# Altium footprint library JUMMPER_NC_0805.PcbLib: 1 footprints
Each footprint in its own frame and in the unit in brackets; x right, y up, seen from the top. Pads: shape width x height; smd on the part's side, far side on the other; paste and mask are expansions set on the pad; w line width, h text height; cw(c..) or ccw(c..) is an arc to the next point about the centre after c.
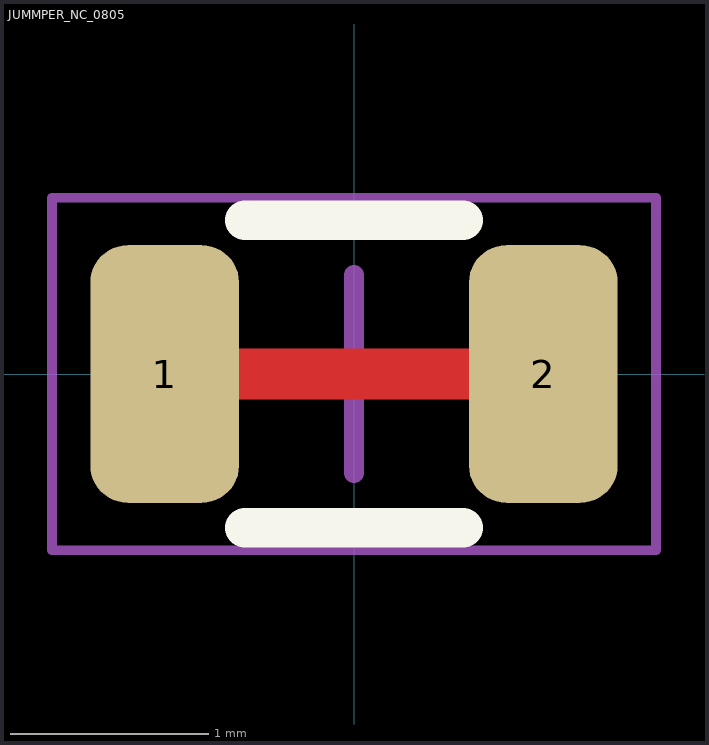
[diagram p0: the footprint, top view; thin cyan lines are the x and y axes]

## JUMMPER_NC_0805 [mm]
pads (2):
  rrect50% 0.75x1.3 smd: 1(-0.955,0) 2(0.955,0)
Top Layer:
  region: -0.762,-0.127 -0.762,0.127 0.762,0.127 0.762,-0.127
Top Overlay:
  lines w0.2: -0.55,-0.775 0.55,-0.775 ; -0.55,0.775 0.55,0.775
Mechanical 15:
  lines w0.05: -1.524,-0.889 1.524,-0.889 1.524,0.889 -1.524,0.889 -1.524,-0.889
  lines w0.1: -0.5,0 0.5,0 ; 0,-0.5 0,0.5